# Altium footprint library SOP8.PcbLib: 2 footprints
Each footprint in its own frame and in the unit in brackets; x right, y up, seen from the top. Pads: shape width x height; smd on the part's side, far side on the other; paste and mask are expansions set on the pad; w line width, h text height; cw(c..) or ccw(c..) is an arc to the next point about the centre after c.
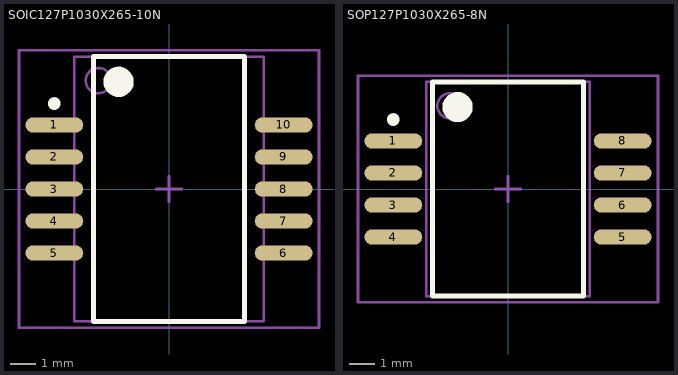
[diagram p0: the footprints below, top view; thin cyan lines are the x and y axes]

## SOIC127P1030X265-10N [mm] "SOIC, 10-Leads, Body 10.5x7.5mm (max), Pitch 1.27mm, IPC Medium Density"
height 2.65
pads (10):
  oval 2.3x0.6 smd: 1(-4.55,2.54) 2(-4.55,1.27) 3(-4.55,0) 4(-4.55,-1.27) 5(-4.55,-2.54) 6(4.55,-2.54) 7(4.55,-1.27) 8(4.55,0) 9(4.55,1.27) 10(4.55,2.54)
Top Overlay:
  circle w0.6: c-2,4.25 r0.3
  circle w0.25: c-4.55,3.39 r0.125
  lines w0.2: -3,-5.25 3,-5.25 3,5.25 -3,5.25 -3,-5.25
Mechanical 13:
  circle w0.1: c-2.8,4.3 r0.5
  lines w0.1: -3.75,-5.25 3.75,-5.25 3.75,5.25 -3.75,5.25 -3.75,-5.25
Mechanical 15:
  lines w0.1: -0.5,0 0.5,0 ; 0,-0.5 0,0.5 ; -5.95,-5.5 5.95,-5.5 5.95,5.5 -5.95,5.5 -5.95,-5.5
3D body: height 2.65, standoff 0.1, extent -3.75,-5.25 3.75,5.25

## SOP127P1030X265-8N [mm] "SOP, 8-Leads, Body 8.5x6.5mm (max), Pitch 1.27mm, IPC Medium Density"
height 2.65
pads (8):
  oval 2.3x0.6 smd: 1(-4.55,1.905) 2(-4.55,0.635) 3(-4.55,-0.635) 4(-4.55,-1.905) 5(4.55,-1.905) 6(4.55,-0.635) 7(4.55,0.635) 8(4.55,1.905)
Top Overlay:
  circle w0.25: c-4.55,2.755 r0.125
  circle w0.6: c-2,3.25 r0.3
  lines w0.2: -3,-4.25 -3,4.25 3,4.25 3,-4.25 -3,-4.25
Mechanical 13:
  circle w0.1: c-2.3,3.3 r0.5
  lines w0.1: -3.25,-4.25 -3.25,4.25 3.25,4.25 3.25,-4.25 -3.25,-4.25
Mechanical 15:
  lines w0.1: -0.5,0 0.5,0 ; 0,-0.5 0,0.5 ; -5.95,-4.5 -5.95,4.5 5.95,4.5 5.95,-4.5 -5.95,-4.5
3D body: height 2.65, standoff 0.1, extent -3.25,-4.25 3.25,4.25